# Altium footprint library QRD1114.PcbLib: 2 footprints
Each footprint in its own frame and in the unit in brackets; x right, y up, seen from the top. Pads: shape width x height; smd on the part's side, far side on the other; paste and mask are expansions set on the pad; w line width, h text height; cw(c..) or ccw(c..) is an arc to the next point about the centre after c.
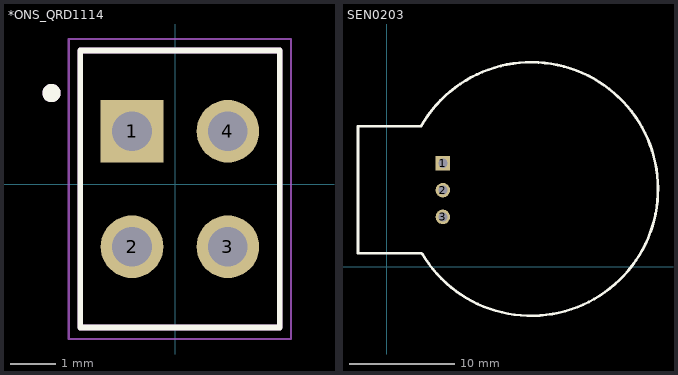
[diagram p0: the footprints below, top view; thin cyan lines are the x and y axes]

## *ONS_QRD1114 [mm]
pads (4):
  rect 1.378x1.378 hole 0.87: 1(-0.955,1.17)
  round 1.378 hole 0.87: 2(-0.955,-1.37) 3(1.155,-1.37) 4(1.155,1.17)
Top Overlay:
  circle w0.2: c-2.727,2.009 r0.1
  lines w0.127: -2.095,-3.15 2.295,-3.15 2.295,2.95 -2.095,2.95 -2.095,-3.15
Mechanical 13:
  circle w0.2: c-2.727,2.009 r0.1
  circle w0.2: c-2.727,2.009 r0.1
  lines w0.127: -2.095,-3.15 -2.095,2.95 ; -2.095,-3.15 2.295,-3.15 ; -2.095,-3.15 -2.095,2.95 ; -2.095,-3.15 2.295,-3.15 ; -2.095,2.95 2.295,2.95 ; -2.095,2.95 2.295,2.95 ; 2.295,-3.15 2.295,2.95 ; 2.295,-3.15 2.295,2.95
Mechanical 15:
  lines w0.05: -2.345,-3.4 2.545,-3.4 2.545,3.2 -2.345,3.2 -2.345,-3.4

## SEN0203 [mil] "Sensor PPM"
pads (3):
  rect 54.25x54.25 hole 34.25: 1(210,385)
  round 54.25 hole 34.25: 2(210,285) 3(210,185)
Top Overlay:
  lines w10: 129.91,525.38 cw(c539.07,289.18) 132.51,48.53 ; 130,50 -106.22,50 -106.22,522.44 130,522.44